# Altium schematic symbol library Transistors - FETs, MOSFETs - Single.SchLib: 2 symbols
Pins are listed as number, name and electrical type; pins without a type are passive.

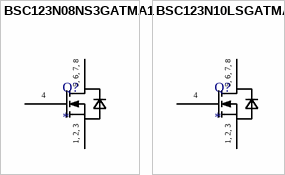
[diagram p0: symbols BSC123N08NS3GATMA1 to BSC123N10LSGATMA1]

## BSC123N08NS3GATMA1
designator Q?
MOSFET N-CH 80V 11A/55A TDSON; Supplier 1: Digi-Key; Supplier 2: Farnell; Supplier 3: Mouser; Supplier 4: Arrow Electronics; Supplier Part Number 1: BSC123N08NS3GATMA1CT-ND; Supplier Part Number 2: 1775469; Supplier Part Number 3: 726-BSC123N08NS3GATM; Supplier Part Number 4: BSC123N08NS3GATMA1
footprint INFINEON_PG-TDSON-8-1
pins: D DRAIN, G GATE, S SOURCE
text: 5, 6, 7, 8; 4; 1, 2, 3

## BSC123N10LSGATMA1
designator Q?
MOSFET N-CH 100V 10.6/71A 8TDSON; Supplier 1: Digi-Key; Supplier 2: Farnell; Supplier 3: Mouser; Supplier 4: Arrow Electronics; Supplier Part Number 1: BSC123N10LSGATMA1CT-ND; Supplier Part Number 2: 1775470; Supplier Part Number 3: 726-BSC123N10LSG; Supplier Part Number 4: BSC123N10LSGATMA1
footprint INFINEON_PG-TDSON-8-1
pins: D DRAIN, G SOURCE, G GATE
text: 5, 6, 7, 8; 4; 1, 2, 3